# Altium integrated library ADXL372BCCZ-RL7.IntLib: 1 symbol
Pins are listed as number, name and electrical type; pins without a type are passive.

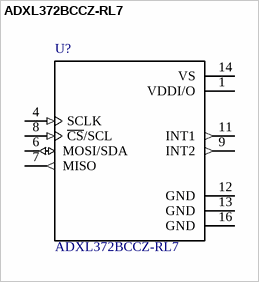
[diagram p0: symbol ADXL372BCCZ-RL7]

## ADXL372BCCZ-RL7
designator U?
/ Accelerometer Triple Â±200g 2.5V 16-Pin LGA T/R /; MF: Analog Devices; SnapEDA_Link: https://www.snapeda.com/parts/ADXL372BCCZ-RL7/Analog%20Devices%20Inc./view-part/?ref=snap; Availability: Unavailable; Price: None; MP: ADXL372BCCZ-RL7; Package: LGA-16 Analog Devices; Value: *
footprint *PQFN50P322X300X114-16N
pins: 1 VDDI/O (power), 4 SCLK (in), 6 MOSI/SDA (io), 7 MISO (out), 8 ~{CS}/SCL (in), 9 INT2 (out), 11 INT1 (out), 12 GND (power), 13 GND (power), 14 VS (power), 16 GND (power)